# Altium footprint library W25Q16JVUXIQ.PcbLib: 1 footprints
Each footprint in its own frame and in the unit in brackets; x right, y up, seen from the top. Pads: shape width x height; smd on the part's side, far side on the other; paste and mask are expansions set on the pad; w line width, h text height; cw(c..) or ccw(c..) is an arc to the next point about the centre after c.
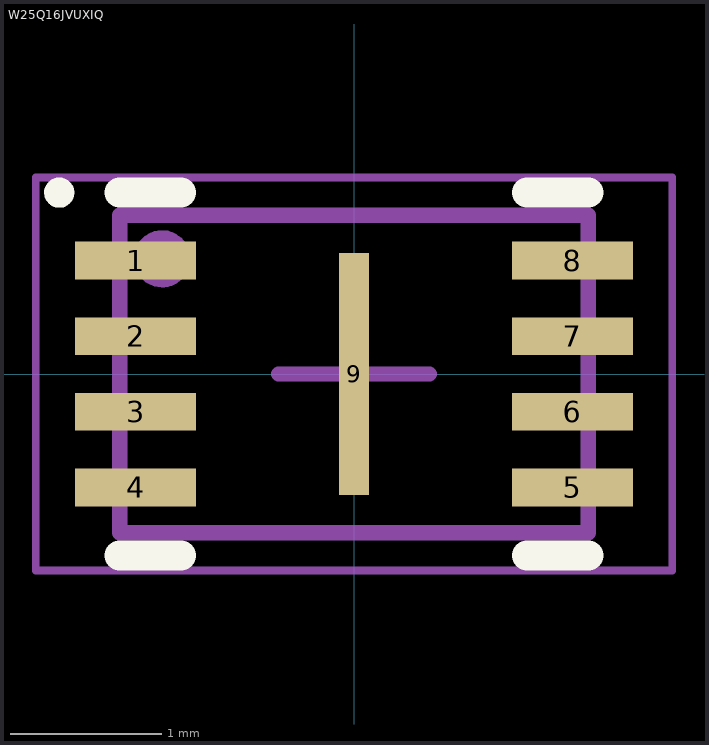
[diagram p0: the footprint, top view; thin cyan lines are the x and y axes]

## W25Q16JVUXIQ [mm]
height 0.6
pads (9):
  rect 0.8x0.25 smd: 1(-1.445,0.75) 2(-1.445,0.25) 3(-1.445,-0.25) 4(-1.445,-0.75) 5(1.445,-0.75) 6(1.445,-0.25) 7(1.445,0.25) 8(1.445,0.75)
  rect 0.2x1.6 smd: 9(0,0)
Top Overlay:
  lines w0.1: -1.904,1.219 ccw(c-1.95,1.2) -1.9,1.2
  lines w0.2: -1.55,-1.2 -1.145,-1.2 ; -1.55,1.2 -1.145,1.2 ; 1.145,-1.2 1.55,-1.2 ; 1.145,1.2 1.55,1.2
Mechanical 1:
  circle w0.1: c-1.27,0.762 r0.139
  lines w0.1: -1.55,-1.05 -1.55,1.05 1.55,1.05 1.55,-1.05 -1.55,-1.05
  text ".Designator" at -3.294,-0.269 h0.65
Mechanical 2:
  lines w0.05: -2.105,-1.3 -2.105,1.3 2.105,1.3 2.105,-1.3 -2.105,-1.3
  lines w0.1: -0.5,0 0.5,0 ; 0,-0.5 0,0.5
3D body "W25Q16JVUXIQ.step": height 0.6, standoff 0, extent -1.57,-1.05 1.57,1.05